# Altium schematic symbol library NT.SchLib: 1 symbol
Pins are listed as number, name and electrical type; pins without a type are passive.

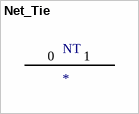
[diagram p0: symbol Net_Tie]

## Net_Tie
designator NT
pins: 0, 1